# Altium schematic symbol library 7809.SchLib: 1 symbol
Pins are listed as number, name and electrical type; pins without a type are passive.

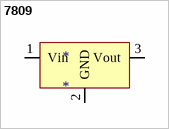
[diagram p0: symbol 7809]

## 7809
designator *
footprint *D2PAK
pins: 1 Vin, 2 GND, 3 Vout